# Altium schematic symbol library SCH - COMPARATOR - TI TL331IDBVR.SCHLIB: 1 symbol
Pins are listed as number, name and electrical type; pins without a type are passive.

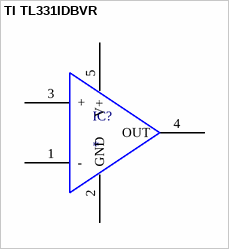
[diagram p0: symbol TI TL331IDBVR]

## TI TL331IDBVR
designator IC?
pins: 1 -, 2 GND (power), 3 +, 4 OUT, 5 V+ (power)